# EAGLE library part LTC3112 (library CM_IC)
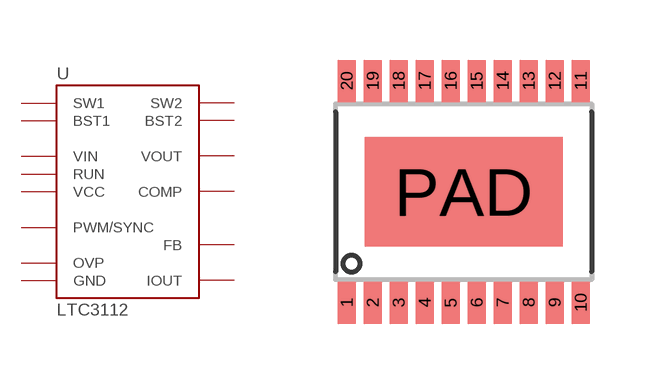
[diagram p0: symbol with the pads of TSSOP20; footprint TSSOP20]

Designator prefix U

## LTC3112FE  [TSSOP20]
1  GND
2  COMP
3  FB
4  OVP
5  VIN
6  VIN
7  RUN
8  IOUT
9  VOUT
10  GND
11  GND
12  SW2
13  SW2
14  BST2
15  SW1
16  SW1
17  BST1
18  VCC
19  PWM/SYNC
20  GND
PAD  GND

## Footprint TSSOP20 (pad centres in mm)
smd 0.45 x 1.05: 1 -2.925,-2.775; 2 -2.275,-2.775; 3 -1.625,-2.775; 4 -0.975,-2.775; 5 -0.325,-2.775; 6 0.325,-2.775; 7 0.975,-2.775; 8 1.625,-2.775; 9 2.275,-2.775; 10 2.925,-2.775; 11 2.925,2.775; 12 2.275,2.775; 13 1.625,2.775; 14 0.975,2.775; 15 0.325,2.775; 16 -0.325,2.775; 17 -0.975,2.775; 18 -1.625,2.775; 19 -2.275,2.775; 20 -2.925,2.775
smd 4.95 x 2.74: PAD 0,0